# EAGLE library part STM32F100 (library IC_Embedded)
Low & medium-density value line, advanced ARM®-based 32-bit MCU with 16 to 128 KB Flash, 12 timers, ADC, DAC & 8 comm interfaces Datasheet <https://www.st.com/resource/en/datasheet/stm32f100cb.pdf>
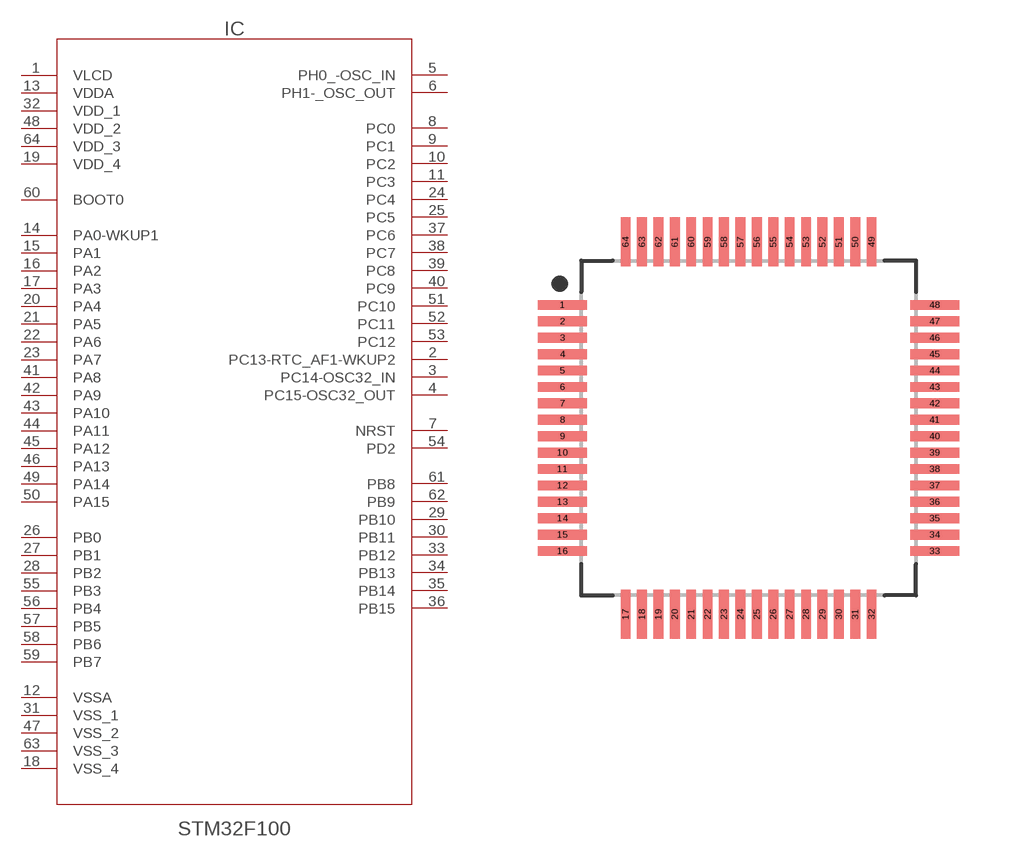
[diagram p22: symbol with the pads of QFP50P1200X1200X160-64N; footprint QFP50P1200X1200X160-64N]

Designator prefix IC

## STM32F100_QFP (CATEGORY: IC_Embedded; MANUFACTURER: ST Microelectronics; MPN: STM32F100R6T6BRT; OPERATING_TEMP: -40 to 85 °C; PART_STATUS: Active; SUB-CATEGORY: Microcontroller; THERMALLOSS: 0.44W; VALUE: STM32F100R6)  [QFP50P1200X1200X160-64N]
1  VLCD  pwr
2  PC13-RTC_AF1-WKUP2
3  PC14-OSC32_IN
4  PC15-OSC32_OUT
5  PH0_-OSC_IN  in
6  PH1-_OSC_OUT  out
7  NRST
8  PC0
9  PC1
10  PC2
11  PC3
12  VSSA  pwr
13  VDDA  pwr
14  PA0-WKUP1
15  PA1
16  PA2
17  PA3
18  VSS_4  pwr
19  VDD_4  pwr
20  PA4
21  PA5
22  PA6
23  PA7
24  PC4
25  PC5
26  PB0
27  PB1
28  PB2
29  PB10
30  PB11
31  VSS_1  pwr
32  VDD_1  pwr
33  PB12
34  PB13
35  PB14
36  PB15
37  PC6
38  PC7
39  PC8
40  PC9
41  PA8
42  PA9
43  PA10
44  PA11
45  PA12
46  PA13
47  VSS_2  pwr
48  VDD_2  pwr
49  PA14
50  PA15
51  PC10
52  PC11
53  PC12
54  PD2
55  PB3
56  PB4
57  PB5
58  PB6
59  PB7
60  BOOT0  in
61  PB8
62  PB9
63  VSS_3  pwr
64  VDD_3  pwr

## Footprint QFP50P1200X1200X160-64N (pad centres in mm)
64-QFP, 0.50 mm pitch, 12.00 mm span, 10.00 X 10.00 X 1.60 mm body 64-pin QFP package with 0.50 mm pitch, 12.00 mm lead span1 X 12.00 mm lead span2 with body size 10.00 X 10.00 X 1.60 mm
smd 1.5 x 0.3: 1 -5.672,3.75; 2 -5.672,3.25; 3 -5.672,2.75; 4 -5.672,2.25; 5 -5.672,1.75; 6 -5.672,1.25; 7 -5.672,0.75; 8 -5.672,0.25; 9 -5.672,-0.25; 10 -5.672,-0.75; 11 -5.672,-1.25; 12 -5.672,-1.75; 13 -5.672,-2.25; 14 -5.672,-2.75; 15 -5.672,-3.25; 16 -5.672,-3.75; 33 5.672,-3.75; 34 5.672,-3.25; 35 5.672,-2.75; 36 5.672,-2.25; 37 5.672,-1.75; 38 5.672,-1.25; 39 5.672,-0.75; 40 5.672,-0.25; 41 5.672,0.25; 42 5.672,0.75; 43 5.672,1.25; 44 5.672,1.75; 45 5.672,2.25; 46 5.672,2.75; 47 5.672,3.25; 48 5.672,3.75
smd 0.3 x 1.5: 17 -3.75,-5.672; 18 -3.25,-5.672; 19 -2.75,-5.672; 20 -2.25,-5.672; 21 -1.75,-5.672; 22 -1.25,-5.672; 23 -0.75,-5.672; 24 -0.25,-5.672; 25 0.25,-5.672; 26 0.75,-5.672; 27 1.25,-5.672; 28 1.75,-5.672; 29 2.25,-5.672; 30 2.75,-5.672; 31 3.25,-5.672; 32 3.75,-5.672; 49 3.75,5.672; 50 3.25,5.672; 51 2.75,5.672; 52 2.25,5.672; 53 1.75,5.672; 54 1.25,5.672; 55 0.75,5.672; 56 0.25,5.672; 57 -0.25,5.672; 58 -0.75,5.672; 59 -1.25,5.672; 60 -1.75,5.672; 61 -2.25,5.672; 62 -2.75,5.672; 63 -3.25,5.672; 64 -3.75,5.672